# EAGLE library part ESP32-S3-WROOM-1U-N4 (library ESP32-S3-WROOM-1U-N4)
Multiprotocol Modules SMD Module, ESP32-S3, 4 MB SPI Flash, IPEX Antenna Connector Source: Datasheet <https://www.espressif.com/sites/default/files/documentation/esp32-s3-wroom-1_wroom-1u_datasheet_en.pdf>
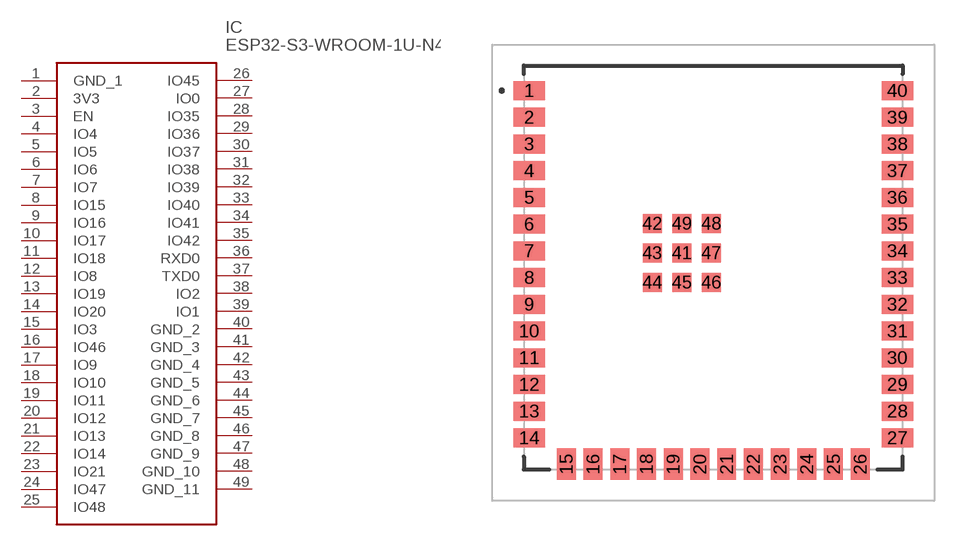
[diagram p0: symbol with the pads of ESP32S3WROOM1UN4; footprint ESP32S3WROOM1UN4]

Designator prefix IC

## ESP32-S3-WROOM-1U-N4 (Description: Multiprotocol Modules SMD Module, ESP32-S3, 4 MB SPI Flash, IPEX Antenna Connector; Height: 3.35mm; Manufacturer_Name: Espressif Systems; Manufacturer_Part_Number: ESP32-S3-WROOM-1U-N4; Mouser_Part_Number: 356-ESP32S3WROOM1UN4; Mouser_Price-Stock: https://www.mouser.co.uk/ProductDetail/Espressif-Systems/ESP32-S3-WROOM-1U-N4?qs=Li%252BoUPsLEnuzjBt9s26Lmg%3D%3D)  [ESP32S3WROOM1UN4]
1  GND_1
2  3V3
3  EN
4  IO4
5  IO5
6  IO6
7  IO7
8  IO15
9  IO16
10  IO17
11  IO18
12  IO8
13  IO19
14  IO20
15  IO3
16  IO46
17  IO9
18  IO10
19  IO11
20  IO12
21  IO13
22  IO14
23  IO21
24  IO47
25  IO48
26  IO45
27  IO0
28  IO35
29  IO36
30  IO37
31  IO38
32  IO39
33  IO40
34  IO41
35  IO42
36  RXD0
37  TXD0
38  IO2
39  IO1
40  GND_2
41  GND_3
42  GND_4
43  GND_5
44  GND_6
45  GND_7
46  GND_8
47  GND_9
48  GND_10
49  GND_11

## Footprint ESP32S3WROOM1UN4 (pad centres in mm)
ESP32-S3-WROOM-1U-N4-1
smd 1.5 x 0.9: 1 -8.75,8.41; 2 -8.75,7.14; 3 -8.75,5.87; 4 -8.75,4.6; 5 -8.75,3.33; 6 -8.75,2.06; 7 -8.75,0.79; 8 -8.75,-0.48; 9 -8.75,-1.75; 10 -8.75,-3.02; 11 -8.75,-4.29; 12 -8.75,-5.56; 13 -8.75,-6.83; 14 -8.75,-8.1; 27 8.75,-8.1; 28 8.75,-6.83; 29 8.75,-5.56; 30 8.75,-4.29; 31 8.75,-3.02; 32 8.75,-1.75; 33 8.75,-0.48; 34 8.75,0.79; 35 8.75,2.06; 36 8.75,3.33; 37 8.75,4.6; 38 8.75,5.87; 39 8.75,7.14; 40 8.75,8.41
smd 0.9 x 1.5: 15 -6.985,-9.35; 16 -5.715,-9.35; 17 -4.445,-9.35; 18 -3.175,-9.35; 19 -1.905,-9.35; 20 -0.635,-9.35; 21 0.635,-9.35; 22 1.905,-9.35; 23 3.175,-9.35; 24 4.445,-9.35; 25 5.715,-9.35; 26 6.985,-9.35
smd 0.9 x 0.9: 41 -1.5,0.69; 42 -2.9,2.09; 43 -2.9,0.69; 44 -2.9,-0.71; 45 -1.5,-0.71; 46 -0.1,-0.71; 47 -0.1,0.69; 48 -0.1,2.09; 49 -1.5,2.09